# Altium schematic symbol library 501568-0207.SchLib: 1 symbol
Pins are listed as number, name and electrical type; pins without a type are passive.

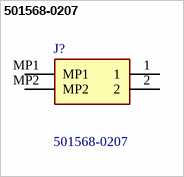
[diagram p0: symbol 501568-0207]

## 501568-0207
designator J?
Molex PICO-CLASP Series, Series Number 501568, 1mm Pitch 2 Way 2 Row Right Angle PCB Header, Solder Termination, 1A; Geometry.Height: 3.4mm; Mouser Part Number: 538-501568-0207; Mouser Price/Stock: https://www.mouser.co.uk/ProductDetail/Molex/501568-0207?qs=uEWtSLL707WbFjnit2JOEg%3D%3D; Manufacturer_Name: Molex; Manufacturer_Part_Number: 501568-0207; Datasheet Link: https://www.molex.com/pdm_docs/sd/5015680207_sd.pdf
footprint 5015680207
pins: 1, 2, MP1, MP2